# Altium schematic symbol library SCH - POWER - SWITCHMODE - TI TPS65150_PWP_24.SchLib: 1 symbol
Pins are listed as number, name and electrical type; pins without a type are passive.

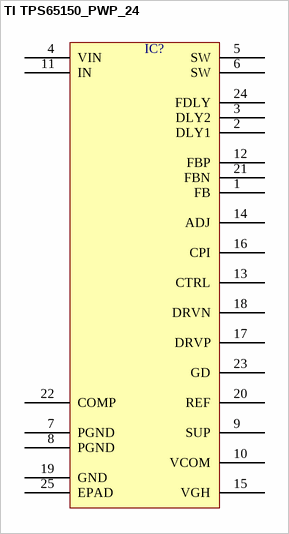
[diagram p0: symbol TI TPS65150_PWP_24]

## TI TPS65150_PWP_24
designator IC?  (value not drawn)
pins: 1 FB, 2 DLY1, 3 DLY2, 4 VIN, 5 SW, 6 SW, 7 PGND, 8 PGND, 9 SUP, 10 VCOM, 11 IN, 12 FBP, 13 CTRL, 14 ADJ, 15 VGH, 16 CPI, 17 DRVP, 18 DRVN, 19 GND, 20 REF, 21 FBN, 22 COMP, 23 GD, 24 FDLY, 25 EPAD